# EAGLE library part TMP102 (library SparkFun-Sensors)
Texas Instruments TMP102 Low-Power Digital Temperature Sensor The TMP102 is a digital sensor (I2C a.k.a. TWI), has a resolution of 0.0625°C, and is accurate up to 0.5°C. This is a very handy sensor that requires a very low-current. Datasheet <http://www.sparkfun.com/datasheets/Sensors/Temperature/tmp102.pdf> SparkFun Products SparkFun Digital Temperature Sensor Breakout - TMP102 <https://www.sparkfun.com/products/11931> (SEN-11931)
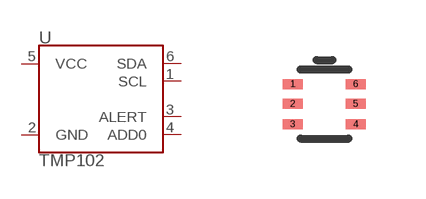
[diagram p18: symbol with the pads of SOT563; footprint SOT563]

Designator prefix U

## TMP102 (PROD_ID: IC-09303)  [SOT563]
1  SCL
2  GND
3  ALERT
4  ADD0
5  VCC
6  SDA

## Footprint SOT563 (pad centres in mm)
6-Pin SOT563 (1:1 Footprint) Datasheet <https://www.sparkfun.com/datasheets/Sensors/Temperature/tmp102.pdf> Specifications: Pin Count: 6 Area: 1.7 x 1.7 x 0.5 mm Pitch: 0.5 mm Devices Using: TMP102
smd 0.508 x 0.249: 1 -0.8,0.498; 2 -0.8,0.003; 3 -0.8,-0.506; 4 0.776,-0.506; 5 0.776,0.003; 6 0.776,0.498